# Altium schematic symbol library Trans_Texas_Instruments_CSD17381F4.SchLib: 1 symbol
Pins are listed as number, name and electrical type; pins without a type are passive.

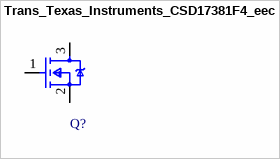
[diagram p0: symbol Trans_Texas_Instruments_CSD17381F4_eec]

## Trans_Texas_Instruments_CSD17381F4_eec
designator Q?, comment CSD17381F4  (value not drawn)
TRANS MOSFET N-CH 30V 3.1A 0402; Manufacturer: Texas Instruments; Mfg Package Ident: 3-PICOSTAR; Part Number: CSD17381F4; helpURL: https://upverter.com/upn/revision/4d3d13666fc1af7c/; ComponentLink2Description: Datasheet; Temperature: -55°C to +150°C; Package: 3-PICOSTAR; Supplier 2: Mouser; Price: 0.201706379017; Supplier 1: Digi-Key; ComponentLink1URL: https://upverter.com/upn/revision/4d3d13666fc1af7c/; Supplier Part Number 2: 595-CSD17381F4; Supplier Part Number 1: 296-38913-1-ND; ComponentLink1Description: Upverter; ComponentLink2URL: http://www.ti.com/lit/ds/symlink/csd17381f4.pdf; RoHS: TRUE; Mouser Part Number: 595-CSD17381F4; Temperature Range High: +150°C; Digikey Description: TRANS MOSFET N-CH 30V 3.1A 0402; Digikey Part Number: 296-38913-1-ND; Lead Free: yes; Temperature Range Low: -55°C
footprint Texas_Instruments_3-PICOSTAR_0
pins: 1 GATE, 2 SOURCE, 3 DRAIN